# Altium footprint library Resistor.PcbLib: 24 footprints (part 1 of 2)
Each footprint in its own frame and in the unit in brackets; x right, y up, seen from the top. Pads: shape width x height; smd on the part's side, far side on the other; paste and mask are expansions set on the pad; w line width, h text height; cw(c..) or ccw(c..) is an arc to the next point about the centre after c.
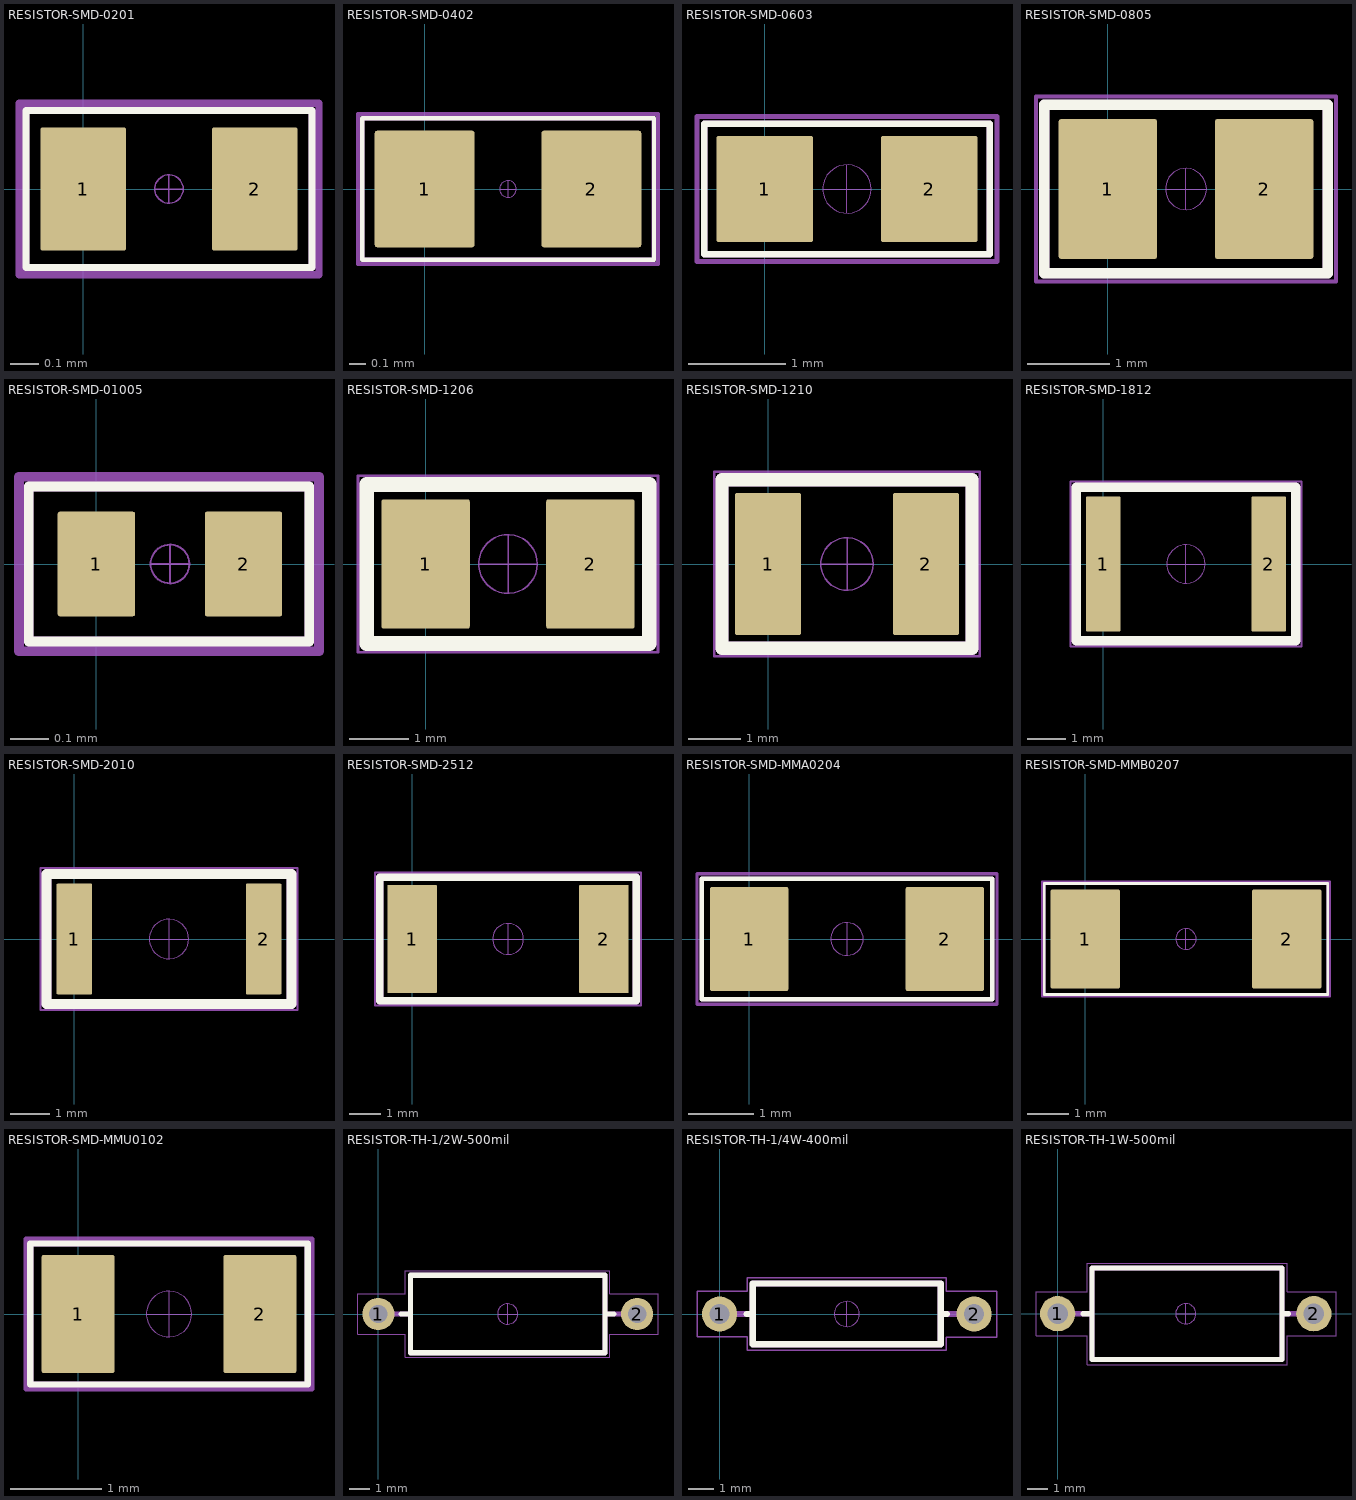
[diagram p0: the footprints below, top view; thin cyan lines are the x and y axes]

## RESISTOR-SMD-0201 [mm] "Resistor SMD 0201 (Metric 0603)"
pads (2):
  rrect5% 0.3x0.43 smd mask+0.013: 1(0,0) 2(0.6,0)
Top Overlay:
  lines w0.025: -0.2,-0.275 0.8,-0.275 0.8,0.275 -0.2,0.275 -0.2,-0.275
Top Component Outline:
  lines w0.025: -0.21,-0.275 0.8,-0.275 0.8,0.275 -0.21,0.275 -0.21,-0.275
  text "'.Comment'" at -0.919,-0.476 h0.5
Top Courtyard:
  lines w0.025: -0.225,-0.3 -0.225,0.3 0.825,0.3 0.825,-0.3 -0.225,-0.3
Top Component Center:
  circle w0.005: c0.3,0 r0.05
  lines w0.005: 0.25,0 0.3,0 ; 0.3,-0.05 0.3,0 ; 0.3,0.05 0.3,0 ; 0.35,0 0.3,0
Top Designator:
  text "'.Designator'" at -0.916,0.313 h0.5
Top Assembly:
  lines w0.025: -0.2,-0.275 0.8,-0.275 0.8,0.275 -0.2,0.275 -0.2,-0.275
  text "'.Designator'" at -0.916,0.313 h0.5
3D body "RESISTOR-SMD-0201.step": height 0.23, standoff 0, extent 0,-0.15 0.6,0.15

## RESISTOR-SMD-0402 [mm] "Resistor SMD 0402 (Metric 1005)"
pads (2):
  rrect5% 0.6x0.7 smd mask+0.019: 1(0,0) 2(1,0)
Top Overlay:
  lines w0.025: -0.375,-0.425 1.375,-0.425 1.375,0.425 -0.375,0.425 -0.375,-0.425
Top Component Outline:
  lines w0.025: -0.375,-0.425 -0.375,0.425 1.375,0.425 1.375,-0.425 -0.375,-0.425
  text "'.Comment'" at -0.609,-0.376 h0.5
Top Courtyard:
  lines w0.025: -0.4,-0.45 1.4,-0.45 1.4,0.45 -0.4,0.45 -0.4,-0.45
Top Component Center:
  circle w0.005: c0.5,0 r0.05
  lines w0.005: 0.45,0 0.5,0 ; 0.5,-0.05 0.5,0 ; 0.5,0.05 0.5,0 ; 0.55,0 0.5,0
Top Designator:
  text "'.Designator'" at -0.716,-0.112 h0.5
Top Assembly:
  lines w0.025: -0.375,-0.425 1.375,-0.425 1.375,0.425 -0.375,0.425 -0.375,-0.425
  text "'.Designator'" at -0.716,-0.112 h0.5
3D body "RESISTOR-SMD-0402.step": height 0.35, standoff -0.01, extent 0,-0.25 1,0.25

## RESISTOR-SMD-0603 [mm] "Resistor SMD 0603 (Metric 1608)"
pads (2):
  rrect5% 1x1.1 smd mask+0.03: 1(0,0) 2(1.7,0)
Top Overlay:
  lines w0.07: -0.625,-0.675 -0.625,0.675 2.325,0.675 2.325,-0.675 -0.625,-0.675
Top Component Outline:
  lines w0.07: -0.625,-0.675 2.325,-0.675 2.325,0.675 -0.625,0.675 -0.625,-0.675
  text "'.Comment'" at -0.927,-0.566 h0.8
Top Courtyard:
  lines w0.05: -0.7,-0.75 -0.7,0.75 2.4,0.75 2.4,-0.75 -0.7,-0.75
Top Component Center:
  circle w0.012: c0.85,0 r0.25
  lines w0.012: 0.6,0 0.85,0 ; 0.85,-0.25 0.85,0 ; 0.85,0.25 0.85,0 ; 1.1,0 0.85,0
Top Designator:
  text "'.Designator'" at -1.1,-0.179 h0.8
Top Assembly:
  lines w0.07: -0.625,-0.675 -0.625,0.675 2.325,0.675 2.325,-0.675 -0.625,-0.675
  text "'.Designator'" at -1.1,-0.179 h0.8
3D body "RESISTOR-SMD-0603.step": height 0.46, standoff 0.01, extent 0.05,-0.4 1.65,0.4

## RESISTOR-SMD-0805 [mm] "Resistor SMD 0805 (Metric 2012)"
pads (2):
  rrect5% 1.2x1.7 smd mask+0.05: 1(0,0) 2(1.9,0)
Top Overlay:
  lines w0.125: -0.775,-1.025 2.675,-1.025 2.675,1.025 -0.775,1.025 -0.775,-1.025
Top Component Outline:
  lines w0.125: -0.775,-1.025 -0.775,1.025 2.675,1.025 2.675,-1.025 -0.775,-1.025
  text "'.Comment'" at -0.827,-0.866 h0.8
Top Courtyard:
  lines w0.05: -0.875,-1.125 2.775,-1.125 2.775,1.125 -0.875,1.125 -0.875,-1.125
Top Component Center:
  circle w0.012: c0.95,0 r0.25
  lines w0.012: 0.7,0 0.95,0 ; 0.95,-0.25 0.95,0 ; 0.95,0.25 0.95,0 ; 1.2,0 0.95,0
Top Designator:
  text "'.Designator'" at -1,-0.179 h0.8
Top Assembly:
  lines w0.125: -0.775,-1.025 2.675,-1.025 2.675,1.025 -0.775,1.025 -0.775,-1.025
  text "'.Designator'" at -1,-0.179 h0.8
3D body "RESISTOR-SMD-0805.step": height 0.6, standoff 0, extent -0.05,-0.625 1.95,0.625

## RESISTOR-SMD-01005 [mm] "Resistor SMD 01005 (Metric 0402)"
pads (2):
  rrect5% 0.2x0.27 smd mask+0.006: 1(0,0) 2(0.38,0)
Top Overlay:
  lines w0.025: -0.175,-0.2 0.55,-0.2 0.55,0.2 -0.175,0.2 -0.175,-0.2
Top Component Outline:
  lines w0.025: -0.175,-0.2 0.55,-0.2 0.55,0.2 -0.175,0.2 -0.175,-0.2
  text "'.Comment'" at -0.919,-0.476 h0.5
Top Courtyard:
  lines w0.025: -0.2,-0.225 0.575,-0.225 0.575,0.225 -0.2,0.225 -0.2,-0.225
Top Component Center:
  circle w0.005: c0.19,0 r0.05
  lines w0.005: 0.14,0 0.19,0 ; 0.19,-0.05 0.19,0 ; 0.19,0.05 0.19,0 ; 0.24,0 0.19,0
Top Designator:
  text "'.Designator'" at -1.026,0.313 h0.5
Top Assembly:
  lines w0.025: -0.175,-0.2 0.55,-0.2 0.55,0.2 -0.175,0.2 -0.175,-0.2
  text "'.Designator'" at -1.026,0.313 h0.5
3D body "RESISTOR-SMD-01005.step": height 0.13, standoff 0, extent -0.01,-0.1 0.39,0.1

## RESISTOR-SMD-1206 [mm] "Resistor SMD 1206 (Metric 3216)"
pads (2):
  rrect5% 1.5x2.2 smd mask+0.05: 1(0,0) 2(2.8,0)
Top Overlay:
  lines w0.25: -1,-1.35 3.8,-1.35 3.8,1.35 -1,1.35 -1,-1.35
Top Component Outline:
  lines w0.25: -1,-1.35 -1,1.35 3.8,1.35 3.8,-1.35 -1,-1.35
  text "'.Comment'" at -0.606,-1.147 h0.9
Top Courtyard:
  lines w0.05: -1.15,-1.5 3.95,-1.5 3.95,1.5 -1.15,1.5 -1.15,-1.5
Top Component Center:
  circle w0.025: c1.4,0 r0.5
  lines w0.025: 0.9,0 1.4,0 ; 1.4,-0.5 1.4,0 ; 1.4,0.5 1.4,0 ; 1.9,0 1.4,0
Top Designator:
  text "'.Designator'" at -2.267,-0.336 h1.5
Top Assembly:
  lines w0.25: -1,-1.35 3.8,-1.35 3.8,1.35 -1,1.35 -1,-1.35
  text "'.Designator'" at -2.267,-0.336 h1.5
3D body "RESISTOR-SMD-1206.step": height 0.61, standoff 0.01, extent -0.2,-0.8 3,0.8

## RESISTOR-SMD-1210 [mm] "Resistor SMD 1210 (Metric 3225)"
pads (2):
  rrect5% 1.25x2.7 smd mask+0.05: 1(0,0) 2(3,0)
Top Overlay:
  lines w0.25: -0.875,-1.6 3.875,-1.6 3.875,1.6 -0.875,1.6 -0.875,-1.6
Top Component Outline:
  lines w0.25: -0.875,-1.6 -0.875,1.6 3.875,1.6 3.875,-1.6 -0.875,-1.6
  text "'.Comment'" at -0.531,-1.372 h0.9
Top Courtyard:
  lines w0.05: -1.025,-1.75 4.025,-1.75 4.025,1.75 -1.025,1.75 -1.025,-1.75
Top Component Center:
  circle w0.025: c1.5,0 r0.5
  lines w0.025: 1,0 1.5,0 ; 1.5,-0.5 1.5,0 ; 1.5,0.5 1.5,0 ; 2,0 1.5,0
Top Designator:
  text "'.Designator'" at -2.167,-0.336 h1.5
Top Assembly:
  lines w0.25: -0.875,-1.6 3.875,-1.6 3.875,1.6 -0.875,1.6 -0.875,-1.6
  text "'.Designator'" at -2.167,-0.336 h1.5
3D body "RESISTOR-SMD-1210.step": height 0.61, standoff 0.01, extent -0.1,-1.25 3.1,1.25

## RESISTOR-SMD-1812 [mm] "Resistor SMD 1812 (Metric 3246)"
pads (2):
  rrect5% 0.9x3.5 smd mask+0.05: 1(0,0) 2(4.3,0)
Top Overlay:
  lines w0.25: -0.7,-2 -0.7,2 5,2 5,-2 -0.7,-2
Top Component Outline:
  lines w0.25: -0.7,-2 5,-2 5,2 -0.7,2 -0.7,-2
  text "'.Comment'" at 0.144,-1.622 h0.9
Top Courtyard:
  lines w0.05: -0.85,-2.15 -0.85,2.15 5.15,2.15 5.15,-2.15 -0.85,-2.15
Top Component Center:
  circle w0.025: c2.15,0 r0.5
  lines w0.025: 1.65,0 2.15,0 ; 2.15,-0.5 2.15,0 ; 2.15,0.5 2.15,0 ; 2.65,0 2.15,0
Top Designator:
  text "'.Designator'" at -1.517,-0.336 h1.5
Top Assembly:
  lines w0.25: -0.7,-2 -0.7,2 5,2 5,-2 -0.7,-2
  text "'.Designator'" at -1.517,-0.336 h1.5
3D body "RESISTOR-SMD-1812.step": height 0.6, standoff 0, extent -0.1,-1.6 4.4,1.6

## RESISTOR-SMD-2010 [mm] "Resistor SMD 2010 (Metric 5025)"
pads (2):
  rrect5% 0.9x2.8 smd mask+0.05: 1(0,0) 2(4.8,0)
Top Overlay:
  lines w0.25: -0.7,-1.65 5.5,-1.65 5.5,1.65 -0.7,1.65 -0.7,-1.65
Top Component Outline:
  lines w0.25: -0.7,-1.65 -0.7,1.65 5.5,1.65 5.5,-1.65 -0.7,-1.65
  text "'.Comment'" at 0.394,-1.372 h0.9
Top Courtyard:
  lines w0.05: -0.85,-1.8 5.65,-1.8 5.65,1.8 -0.85,1.8 -0.85,-1.8
Top Component Center:
  circle w0.025: c2.4,0 r0.5
  lines w0.025: 1.9,0 2.4,0 ; 2.4,-0.5 2.4,0 ; 2.4,0.5 2.4,0 ; 2.9,0 2.4,0
Top Designator:
  text "'.Designator'" at -1.267,-0.336 h1.5
Top Assembly:
  lines w0.25: -0.7,-1.65 5.5,-1.65 5.5,1.65 -0.7,1.65 -0.7,-1.65
  text "'.Designator'" at -1.267,-0.336 h1.5
3D body "RESISTOR-SMD-2010.step": height 0.6, standoff 0, extent -0.1,-1.25 4.9,1.25

## RESISTOR-SMD-2512 [mm] "Resistor SMD 2512 (Metric 6332)"
pads (2):
  rrect5% 1.6x3.5 smd mask+0.05: 1(0,0) 2(6.2,0)
Top Overlay:
  lines w0.25: -1.05,-2 7.25,-2 7.25,2 -1.05,2 -1.05,-2
Top Component Outline:
  lines w0.25: -1.05,-2 -1.05,2 7.25,2 7.25,-2 -1.05,-2
  text "'.Comment'" at 1.094,-1.697 h0.9
Top Courtyard:
  lines w0.05: -1.2,-2.15 7.4,-2.15 7.4,2.15 -1.2,2.15 -1.2,-2.15
Top Component Center:
  circle w0.025: c3.1,0 r0.5
  lines w0.025: 2.6,0 3.1,0 ; 3.1,-0.5 3.1,0 ; 3.1,0.5 3.1,0 ; 3.6,0 3.1,0
Top Designator:
  text "'.Designator'" at -0.567,-0.336 h1.5
Top Assembly:
  lines w0.25: -1.05,-2 7.25,-2 7.25,2 -1.05,2 -1.05,-2
  text "'.Designator'" at -0.567,-0.336 h1.5
3D body "RESISTOR-SMD-2512.step": height 0.6, standoff 0, extent -0.1,-1.6 6.3,1.6

## RESISTOR-SMD-MMA0204 [mm] "Resistor SMD MMA0204 (MiniMELF)"
pads (2):
  rrect5% 1.2x1.6 smd mask+0.03: 1(0,0) 2(3,0)
Top Overlay:
  lines w0.07: -0.725,-0.925 -0.725,0.925 3.725,0.925 3.725,-0.925 -0.725,-0.925
Top Component Outline:
  lines w0.07: -0.725,-0.925 3.725,-0.925 3.725,0.925 -0.725,0.925 -0.725,-0.925
  text "'.Comment'" at -0.277,-0.816 h0.8
Top Courtyard:
  lines w0.05: -0.8,-1 -0.8,1 3.8,1 3.8,-1 -0.8,-1
Top Component Center:
  circle w0.012: c1.5,0 r0.25
  lines w0.012: 1.25,0 1.5,0 ; 1.5,-0.25 1.5,0 ; 1.5,0.25 1.5,0 ; 1.75,0 1.5,0
Top Designator:
  text "'.Designator'" at -0.45,-0.179 h0.8
Top Assembly:
  lines w0.07: -0.725,-0.925 -0.725,0.925 3.725,0.925 3.725,-0.925 -0.725,-0.925
  text "'.Designator'" at -0.45,-0.179 h0.8
3D body "MMA 0204.stp": height 1.4, standoff 0, extent -0.3,-0.7 3.3,0.7

## RESISTOR-SMD-MMB0207 [mm] "Resistor SMD MMB207 (MELF)"
pads (2):
  rrect5% 1.7x2.4 smd mask+0.05: 1(0,0) 2(4.9,0)
Top Overlay:
  lines w0.07: -1,-1.35 -1,1.35 5.9,1.35 5.9,-1.35 -1,-1.35
Top Component Outline:
  lines w0.07: -1,-1.35 5.9,-1.35 5.9,1.35 -1,1.35 -1,-1.35
  text "'.Comment'" at 0.673,-1.216 h0.8
Top Courtyard:
  lines w0.05: -1.05,-1.4 -1.05,1.4 5.95,1.4 5.95,-1.4 -1.05,-1.4
Top Component Center:
  circle w0.012: c2.45,0 r0.25
  lines w0.012: 2.2,0 2.45,0 ; 2.45,-0.25 2.45,0 ; 2.45,0.25 2.45,0 ; 2.7,0 2.45,0
Top Designator:
  text "'.Designator'" at 0.5,-0.179 h0.8
Top Assembly:
  lines w0.07: -1,-1.35 -1,1.35 5.9,1.35 5.9,-1.35 -1,-1.35
  text "'.Designator'" at 0.5,-0.179 h0.8
3D body "MMB 0207.stp": height 2.1, standoff -0.1, extent -0.45,-1.1 5.35,1.1

## RESISTOR-SMD-MMU0102 [mm] "Resistor SMD MMU0102 (MicroMELF)"
pads (2):
  rrect5% 0.8x1.3 smd mask+0.03: 1(0,0) 2(2,0)
Top Overlay:
  lines w0.07: -0.525,-0.775 -0.525,0.775 2.525,0.775 2.525,-0.775 -0.525,-0.775
Top Component Outline:
  lines w0.07: -0.525,-0.775 2.525,-0.775 2.525,0.775 -0.525,0.775 -0.525,-0.775
  text "'.Comment'" at -0.777,-0.666 h0.8
Top Courtyard:
  lines w0.05: -0.575,-0.825 -0.575,0.825 2.575,0.825 2.575,-0.825 -0.575,-0.825
Top Component Center:
  circle w0.012: c1,0 r0.25
  lines w0.012: 0.75,0 1,0 ; 1,-0.25 1,0 ; 1,0.25 1,0 ; 1.25,0 1,0
Top Designator:
  text "'.Designator'" at -0.95,-0.179 h0.8
Top Assembly:
  lines w0.07: -0.525,-0.775 -0.525,0.775 2.525,0.775 2.525,-0.775 -0.525,-0.775
  text "'.Designator'" at -0.95,-0.179 h0.8
3D body "MMU 0102.stp": height 1.1, standoff 0, extent -0.1,-0.55 2.1,0.55

## RESISTOR-TH-1/2W-500mil [mm] "Resistor Through-Hole 1/2W pitch 500 mil"
pads (2):
  round 1.575 hole 0.9 mask+0.07: 1(0,0) 2(12.7,0)
Top Overlay:
  lines w0.25: 1.125,0 1.575,0 ; 11.125,0 11.575,0 ; 1.575,-1.9 11.125,-1.9 11.125,1.9 1.575,1.9 1.575,-1.9
Top Component Outline:
  lines w0.25: 0.508,0 1.575,0 ; 11.125,0 12.202,0 ; 1.575,-1.9 11.125,-1.9 11.125,1.9 1.575,1.9 1.575,-1.9
  text "'.Comment'" at 3.007,-1.554 h1.5
Top Courtyard:
  lines w0.05: -1,-1 -1,1 1.325,1 1.325,2.125 11.35,2.125 11.35,1 13.725,1 13.725,-1 11.35,-1 11.35,-2.125 1.325,-2.125 1.325,-1 -1,-1
Top Component Center:
  circle w0.025: c6.35,0 r0.5
  lines w0.025: 5.85,0 6.35,0 ; 6.35,-0.5 6.35,0 ; 6.35,0.5 6.35,0 ; 6.85,0 6.35,0
Top Designator:
  text "'.Designator'" at 2.683,-0.336 h1.5
Top Assembly:
  lines w0.25: 0.508,0 1.575,0 ; 11.125,0 12.202,0 ; 1.575,-1.9 11.125,-1.9 11.125,1.9 1.575,1.9 1.575,-1.9
  text "'.Designator'" at 2.683,-0.336 h1.5
3D body "Res50-Axial 0_5W-1K.step": height 3.78, standoff -5.6, extent -0.375,-1.875 13.075,1.875

## RESISTOR-TH-1/4W-400mil [mm] "Resistor Through-Hole 1/4W pitch 400 mil"
pads (2):
  round 1.4 hole 0.8 mask+0.07: 1(0,0) 2(10.16,0)
Top Overlay:
  lines w0.25: 1.075,0 1.325,0 ; 8.825,-0.002 9.075,-0.002 ; 1.325,-1.211 8.825,-1.211 8.825,1.214 1.325,1.214 1.325,-1.211
Top Component Outline:
  lines w0.25: 0.508,0 1.325,0 ; 8.825,0 9.652,0 ; 1.325,-1.211 8.825,-1.211 8.825,1.214 1.325,1.214 1.325,-1.211
  text "'.Comment'" at 1.737,-0.962 h1.5
Top Courtyard:
  lines w0.05: -0.9,-0.9 -0.9,0.9 1.1,0.9 1.1,1.45 9.05,1.45 9.05,0.9 11.075,0.9 11.075,-0.925 9.05,-0.925 9.05,-1.45 1.1,-1.45 1.1,-0.9 -0.9,-0.9
Top Component Center:
  circle w0.025: c5.08,0 r0.5
  lines w0.025: 4.58,0 5.08,0 ; 5.08,-0.5 5.08,0 ; 5.08,0.5 5.08,0 ; 5.58,0 5.08,0
Top Designator:
  text "'.Designator'" at 1.413,-0.336 h1.5
Top Assembly:
  lines w0.25: 0.508,0 1.325,0 ; 8.825,0 9.652,0 ; 1.325,-1.211 8.825,-1.211 8.825,1.214 1.325,1.214 1.325,-1.211
  text "'.Designator'" at 1.413,-0.336 h1.5
3D body "Res40-Axial 0_25W-1K.step": height 2.41, standoff -2, extent -0.3,-1.2 10.46,1.2

## RESISTOR-TH-1W-500mil [mm] "Resistor Through-Hole 1W pitch 500 mil"
pads (2):
  round 1.75 hole 1 mask+0.07: 1(0,0) 2(12.7,0)
Top Overlay:
  lines w0.25: 1.25,0 1.7,0 ; 11.125,0 11.45,0 ; 1.7,-2.275 1.7,2.275 11.125,2.275 11.125,-2.275 1.7,-2.275
Top Component Outline:
  lines w0.25: 0.508,0 1.575,0 ; 11.125,0 12.202,0 ; 1.7,-2.275 1.7,2.275 11.125,2.275 11.125,-2.275 1.7,-2.275
  text "'.Comment'" at 3.007,-1.979 h1.5
Top Courtyard:
  lines w0.05: -1.075,-1.1 1.475,-1.1 1.475,-2.525 11.375,-2.525 11.375,-1.1 13.8,-1.1 13.8,1.1 11.375,1.1 11.375,2.5 1.475,2.5 1.475,1.1 -1.075,1.1 -1.075,-1.1
Top Component Center:
  circle w0.025: c6.35,0 r0.5
  lines w0.025: 5.85,0 6.35,0 ; 6.35,-0.5 6.35,0 ; 6.35,0.5 6.35,0 ; 6.85,0 6.35,0
Top Designator:
  text "'.Designator'" at 2.683,-0.336 h1.5
Top Assembly:
  lines w0.25: 0.508,0 1.575,0 ; 11.125,0 12.202,0 ; 1.7,-2.275 1.7,2.275 11.125,2.275 11.125,-2.275 1.7,-2.275
  text "'.Designator'" at 2.683,-0.336 h1.5
3D body "Res50 1W SilCoat.step": height 4.52, standoff -2, extent -0.375,-2.25 13.075,2.25